# Altium footprint library CON5_2.54_RT_TH_MALE.PcbLib: 1 footprints
Each footprint in its own frame and in the unit in brackets; x right, y up, seen from the top. Pads: shape width x height; smd on the part's side, far side on the other; paste and mask are expansions set on the pad; w line width, h text height; cw(c..) or ccw(c..) is an arc to the next point about the centre after c.
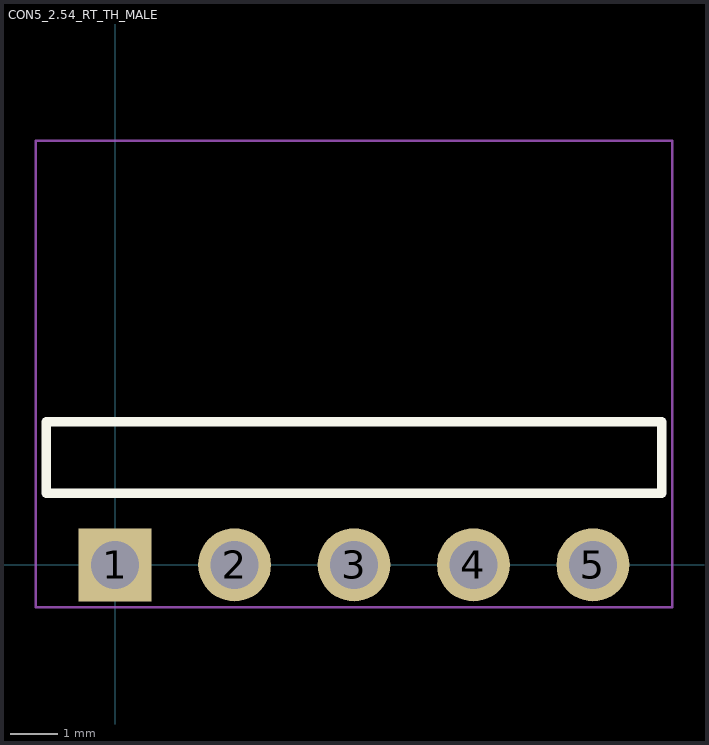
[diagram p0: the footprint, top view; thin cyan lines are the x and y axes]

## CON5_2.54_RT_TH_MALE [mm] "Terminal Assembly, 1x5 Pins, Right Angle, 2.54mm Pitch, Male"
height 2.48
pads (5):
  rect 1.55x1.55 hole 1.02: 1(0,0)
  round 1.55 hole 1.02: 2(2.54,0) 3(5.08,0) 4(7.62,0) 5(10.16,0)
Top Overlay:
  lines w0.2: -1.46,1.52 11.62,1.52 11.62,3.04 -1.46,3.04 -1.46,1.52
Mechanical 13:
  lines w0.1: -1.46,1.52 -1.46,3.04 11.62,3.04 11.62,1.52 -1.46,1.52
Mechanical 15:
  lines w0.05: -1.685,-0.9 -1.685,9.015 11.845,9.015 11.845,-0.9 -1.685,-0.9
3D body "TLW-105-01-X-S.step": height 2.49, standoff -3.05, extent -1.27,-0.318 11.43,8.89